# Altium integrated library Avago LED Display 7-Segment, 1-Digit.IntLib: 223 symbols (part 2 of 5)
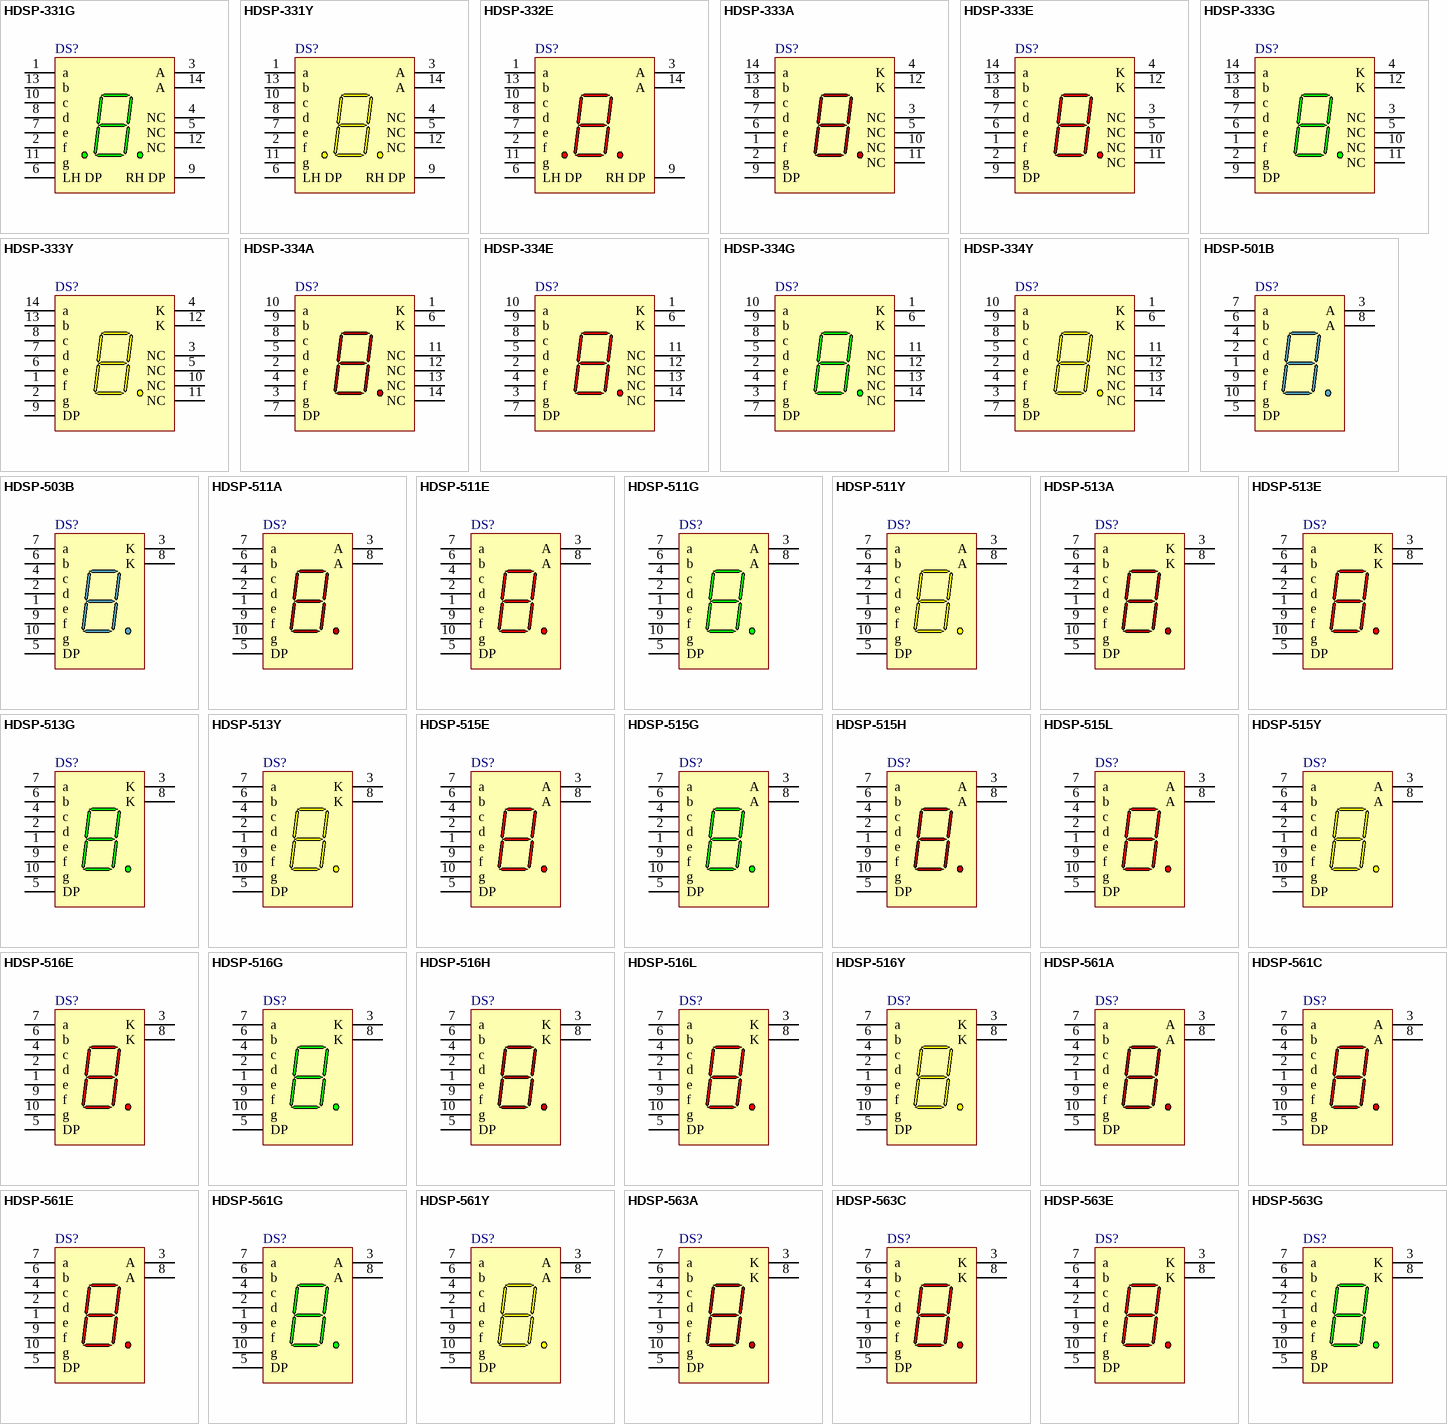
[diagram p6: symbols HDSP-331G to HDSP-563G]

## HDSP-334Y
designator DS?
7.62 mm General Purpose Yellow 7-Segment Display: CC, RH DP; Published: 26-May-2004; LatestRevisionDate: 11-Oct-2004; LatestRevisionNote: Display outline superimposed on PCB Footprint.; DatasheetVersion: 22-Apr-2003; PackageVersion: 22-Apr-2003; PackageReference: A-14(R); Publisher: Altium Limited; PackageDescription: LED, 7-Segment Display, 7.62 mm, RHD; 14 Leads; Row Space 7.62 mm; Pitch 2.54 mm; ComponentLink1Description: Manufacturer Link; ComponentLink1URL: http://www.avagotech.com/; ComponentLink2Description: Datasheet; ComponentLink2URL: http://cp.literature.agilent.com/litweb/pdf/5988-9421EN.pdf
footprint A-14(R) (LED, 7-Segment Display, 7.62 mm, RHD; 14 Leads; Row Space 7.62 mm; Pitch 2.54 mm)
simulation model HDSP_334Y (SUBCKT)
pins: 1 K "Common Cathode", 2 e "Anode", 3 g "Anode", 4 f "Anode", 5 d "Anode", 6 K "Common Cathode", 7 DP "Anode", 8 c "Anode", 9 b "Anode", 10 a "Anode", 11 NC "No Connect", 12 NC "No Connect", 13 NC "No Connect", 14 NC "No Connect"

## HDSP-501B
designator DS?
14.2 mm General Purpose Blue 7-Segment Display: CA, RH DP, Gray Surface; Published: 26-May-2004; LatestRevisionDate: 11-Oct-2004; LatestRevisionNote: Display outline superimposed on PCB Footprint.; DatasheetVersion: 24-Sep-2002; PackageVersion: 24-Sep-2002; PackageReference: H; Publisher: Altium Limited; PackageDescription: LED, 7-Segment Display, 14.2 mm, RHD; 10 Leads; Row Space 15.24 mm; Pitch 2.54 mm; ComponentLink1Description: Manufacturer Link; ComponentLink1URL: http://www.avagotech.com/; ComponentLink2Description: Datasheet; ComponentLink2URL: http://cp.literature.agilent.com/litweb/pdf/5988-8000EN.pdf
footprint H (LED, 7-Segment Display, 14.2 mm, RHD; 10 Leads; Row Space 15.24 mm; Pitch 2.54 mm)
simulation model HDSP_501B (SUBCKT)
pins: 1 e "Cathode", 2 d "Cathode", 3 A "Common Anode", 4 c "Cathode", 5 DP "Cathode", 6 b "Cathode", 7 a "Cathode", 8 A "Common Anode", 9 f "Cathode", 10 g "Cathode"

## HDSP-503B
designator DS?
14.2 mm General Purpose Blue 7-Segment Display: CC, RH DP, Gray Surface; Published: 26-May-2004; LatestRevisionDate: 11-Oct-2004; LatestRevisionNote: Display outline superimposed on PCB Footprint.; DatasheetVersion: 24-Sep-2002; PackageVersion: 24-Sep-2002; PackageReference: H; Publisher: Altium Limited; PackageDescription: LED, 7-Segment Display, 14.2 mm, RHD; 10 Leads; Row Space 15.24 mm; Pitch 2.54 mm; ComponentLink1Description: Manufacturer Link; ComponentLink1URL: http://www.avagotech.com/; ComponentLink2Description: Datasheet; ComponentLink2URL: http://cp.literature.agilent.com/litweb/pdf/5988-8000EN.pdf
footprint H (LED, 7-Segment Display, 14.2 mm, RHD; 10 Leads; Row Space 15.24 mm; Pitch 2.54 mm)
simulation model HDSP_503B (SUBCKT)
pins: 1 e "Anode", 2 d "Anode", 3 K "Common Cathode", 4 c "Anode", 5 DP "Anode", 6 b "Anode", 7 a "Anode", 8 K "Common Cathode", 9 f "Anode", 10 g "Anode"

## HDSP-511A
designator DS?
14.22 mm General Purpose AlGaAs Red 7-Segment Display: CA, RH DP; Published: 26-May-2004; LatestRevisionDate: 11-Oct-2004; LatestRevisionNote: Display outline superimposed on PCB Footprint.; DatasheetVersion: 25-Jul-2001; PackageVersion: 25-Jul-2001; PackageReference: HDSP-51; Publisher: Altium Limited; PackageDescription: LED, 7-Segment Display, 14.27 mm, RHD; 10 Leads; Row Space 15.24 mm; Pitch 2.54 mm; ComponentLink1Description: Manufacturer Link; ComponentLink1URL: http://www.avagotech.com/; ComponentLink2Description: Datasheet; ComponentLink2URL: http://cp.literature.agilent.com/litweb/pdf/5988-2968EN.pdf
footprint HDSP-51 (LED, 7-Segment Display, 14.27 mm, RHD; 10 Leads; Row Space 15.24 mm; Pitch 2.54 mm)
simulation model HDSP_511A (SUBCKT)
pins: 1 e "Cathode", 2 d "Cathode", 3 A "Common Anode", 4 c "Cathode", 5 DP "Cathode", 6 b "Cathode", 7 a "Cathode", 8 A "Common Anode", 9 f "Cathode", 10 g "Cathode"

## HDSP-511E
designator DS?
14.22 mm General Purpose HER 7-Segment Display: CA, RH DP; Published: 26-May-2004; LatestRevisionDate: 11-Oct-2004; LatestRevisionNote: Display outline superimposed on PCB Footprint.; DatasheetVersion: 25-Jul-2001; PackageVersion: 25-Jul-2001; PackageReference: HDSP-51; Publisher: Altium Limited; PackageDescription: LED, 7-Segment Display, 14.27 mm, RHD; 10 Leads; Row Space 15.24 mm; Pitch 2.54 mm; ComponentLink1Description: Manufacturer Link; ComponentLink1URL: http://www.avagotech.com/; ComponentLink2Description: Datasheet; ComponentLink2URL: http://cp.literature.agilent.com/litweb/pdf/5988-2968EN.pdf
footprint HDSP-51 (LED, 7-Segment Display, 14.27 mm, RHD; 10 Leads; Row Space 15.24 mm; Pitch 2.54 mm)
simulation model HDSP_511E (SUBCKT)
pins: 1 e "Cathode", 2 d "Cathode", 3 A "Common Anode", 4 c "Cathode", 5 DP "Cathode", 6 b "Cathode", 7 a "Cathode", 8 A "Common Anode", 9 f "Cathode", 10 g "Cathode"

## HDSP-511G
designator DS?
14.22 mm General Purpose Green 7-Segment Display: CA, RH DP; Published: 26-May-2004; LatestRevisionDate: 11-Oct-2004; LatestRevisionNote: Display outline superimposed on PCB Footprint.; DatasheetVersion: 25-Jul-2001; PackageVersion: 25-Jul-2001; PackageReference: HDSP-51; Publisher: Altium Limited; PackageDescription: LED, 7-Segment Display, 14.27 mm, RHD; 10 Leads; Row Space 15.24 mm; Pitch 2.54 mm; ComponentLink1Description: Manufacturer Link; ComponentLink1URL: http://www.avagotech.com/; ComponentLink2Description: Datasheet; ComponentLink2URL: http://cp.literature.agilent.com/litweb/pdf/5988-2968EN.pdf
footprint HDSP-51 (LED, 7-Segment Display, 14.27 mm, RHD; 10 Leads; Row Space 15.24 mm; Pitch 2.54 mm)
simulation model HDSP_511G (SUBCKT)
pins: 1 e "Cathode", 2 d "Cathode", 3 A "Common Anode", 4 c "Cathode", 5 DP "Cathode", 6 b "Cathode", 7 a "Cathode", 8 A "Common Anode", 9 f "Cathode", 10 g "Cathode"

## HDSP-511Y
designator DS?
14.22 mm General Purpose Yellow 7-Segment Display: CA, RH DP; Published: 26-May-2004; LatestRevisionDate: 11-Oct-2004; LatestRevisionNote: Display outline superimposed on PCB Footprint.; DatasheetVersion: 25-Jul-2001; PackageVersion: 25-Jul-2001; PackageReference: HDSP-51; Publisher: Altium Limited; PackageDescription: LED, 7-Segment Display, 14.27 mm, RHD; 10 Leads; Row Space 15.24 mm; Pitch 2.54 mm; ComponentLink1Description: Manufacturer Link; ComponentLink1URL: http://www.avagotech.com/; ComponentLink2Description: Datasheet; ComponentLink2URL: http://cp.literature.agilent.com/litweb/pdf/5988-2968EN.pdf
footprint HDSP-51 (LED, 7-Segment Display, 14.27 mm, RHD; 10 Leads; Row Space 15.24 mm; Pitch 2.54 mm)
simulation model HDSP_511Y (SUBCKT)
pins: 1 e "Cathode", 2 d "Cathode", 3 A "Common Anode", 4 c "Cathode", 5 DP "Cathode", 6 b "Cathode", 7 a "Cathode", 8 A "Common Anode", 9 f "Cathode", 10 g "Cathode"

## HDSP-513A
designator DS?
14.22 mm General Purpose AlGaAs Red 7-Segment Display: CC, RH DP; Published: 26-May-2004; LatestRevisionDate: 11-Oct-2004; LatestRevisionNote: Display outline superimposed on PCB Footprint.; DatasheetVersion: 25-Jul-2001; PackageVersion: 25-Jul-2001; PackageReference: HDSP-51; Publisher: Altium Limited; PackageDescription: LED, 7-Segment Display, 14.27 mm, RHD; 10 Leads; Row Space 15.24 mm; Pitch 2.54 mm; ComponentLink1Description: Manufacturer Link; ComponentLink1URL: http://www.avagotech.com/; ComponentLink2Description: Datasheet; ComponentLink2URL: http://cp.literature.agilent.com/litweb/pdf/5988-2968EN.pdf
footprint HDSP-51 (LED, 7-Segment Display, 14.27 mm, RHD; 10 Leads; Row Space 15.24 mm; Pitch 2.54 mm)
simulation model HDSP_513A (SUBCKT)
pins: 1 e "Anode", 2 d "Anode", 3 K "Common Cathode", 4 c "Anode", 5 DP "Anode", 6 b "Anode", 7 a "Anode", 8 K "Common Cathode", 9 f "Anode", 10 g "Anode"

## HDSP-513E
designator DS?
14.22 mm General Purpose HER 7-Segment Display: CC, RH DP; Published: 26-May-2004; LatestRevisionDate: 11-Oct-2004; LatestRevisionNote: Display outline superimposed on PCB Footprint.; DatasheetVersion: 25-Jul-2001; PackageVersion: 25-Jul-2001; PackageReference: HDSP-51; Publisher: Altium Limited; PackageDescription: LED, 7-Segment Display, 14.27 mm, RHD; 10 Leads; Row Space 15.24 mm; Pitch 2.54 mm; ComponentLink1Description: Manufacturer Link; ComponentLink1URL: http://www.avagotech.com/; ComponentLink2Description: Datasheet; ComponentLink2URL: http://cp.literature.agilent.com/litweb/pdf/5988-2968EN.pdf
footprint HDSP-51 (LED, 7-Segment Display, 14.27 mm, RHD; 10 Leads; Row Space 15.24 mm; Pitch 2.54 mm)
simulation model HDSP_513E (SUBCKT)
pins: 1 e "Anode", 2 d "Anode", 3 K "Common Cathode", 4 c "Anode", 5 DP "Anode", 6 b "Anode", 7 a "Anode", 8 K "Common Cathode", 9 f "Anode", 10 g "Anode"

## HDSP-513G
designator DS?
14.22 mm General Purpose Green 7-Segment Display: CC, RH DP; Published: 26-May-2004; LatestRevisionDate: 11-Oct-2004; LatestRevisionNote: Display outline superimposed on PCB Footprint.; DatasheetVersion: 25-Jul-2001; PackageVersion: 25-Jul-2001; PackageReference: HDSP-51; Publisher: Altium Limited; PackageDescription: LED, 7-Segment Display, 14.27 mm, RHD; 10 Leads; Row Space 15.24 mm; Pitch 2.54 mm; ComponentLink1Description: Manufacturer Link; ComponentLink1URL: http://www.avagotech.com/; ComponentLink2Description: Datasheet; ComponentLink2URL: http://cp.literature.agilent.com/litweb/pdf/5988-2968EN.pdf
footprint HDSP-51 (LED, 7-Segment Display, 14.27 mm, RHD; 10 Leads; Row Space 15.24 mm; Pitch 2.54 mm)
simulation model HDSP_513G (SUBCKT)
pins: 1 e "Anode", 2 d "Anode", 3 K "Common Cathode", 4 c "Anode", 5 DP "Anode", 6 b "Anode", 7 a "Anode", 8 K "Common Cathode", 9 f "Anode", 10 g "Anode"

## HDSP-513Y
designator DS?
14.22 mm General Purpose Yellow 7-Segment Display: CC, RH DP; Published: 26-May-2004; LatestRevisionDate: 11-Oct-2004; LatestRevisionNote: Display outline superimposed on PCB Footprint.; DatasheetVersion: 25-Jul-2001; PackageVersion: 25-Jul-2001; PackageReference: HDSP-51; Publisher: Altium Limited; PackageDescription: LED, 7-Segment Display, 14.27 mm, RHD; 10 Leads; Row Space 15.24 mm; Pitch 2.54 mm; ComponentLink1Description: Manufacturer Link; ComponentLink1URL: http://www.avagotech.com/; ComponentLink2Description: Datasheet; ComponentLink2URL: http://cp.literature.agilent.com/litweb/pdf/5988-2968EN.pdf
footprint HDSP-51 (LED, 7-Segment Display, 14.27 mm, RHD; 10 Leads; Row Space 15.24 mm; Pitch 2.54 mm)
simulation model HDSP_513Y (SUBCKT)
pins: 1 e "Anode", 2 d "Anode", 3 K "Common Cathode", 4 c "Anode", 5 DP "Anode", 6 b "Anode", 7 a "Anode", 8 K "Common Cathode", 9 f "Anode", 10 g "Anode"

## HDSP-515E
designator DS?
13 mm Slim Font, Standard Current, HER 7-Segment Display: CA, RH DP; Published: 26-May-2004; LatestRevisionDate: 11-Oct-2004; LatestRevisionNote: Display outline superimposed on PCB Footprint.; DatasheetVersion: 20-Jul-2001; PackageVersion: 01-Oct-2001; PackageReference: Case-5; Publisher: Altium Limited; PackageDescription: LED, 7-Segment Display, 13 mm, RHD; 10 Leads; Row Space 15.24 mm; Pitch 2.54 mm; ComponentLink1Description: Manufacturer Link; ComponentLink1URL: http://www.avagotech.com/; ComponentLink2Description: Datasheet; ComponentLink2URL: http://cp.literature.agilent.com/litweb/pdf/5989-2640EN.pdf
footprint Case-5 (LED, 7-Segment Display, 13 mm, RHD; 10 Leads; Row Space 15.24 mm; Pitch 2.54 mm)
simulation model HDSP_515E (SUBCKT)
pins: 1 e "Cathode", 2 d "Cathode", 3 A "Common Anode", 4 c "Cathode", 5 DP "Cathode", 6 b "Cathode", 7 a "Cathode", 8 A "Common Anode", 9 f "Cathode", 10 g "Cathode"

## HDSP-515G
designator DS?
13 mm Slim Font, Standard Current, Green 7-Segment Display: CA, RH DP; Published: 26-May-2004; LatestRevisionDate: 11-Oct-2004; LatestRevisionNote: Display outline superimposed on PCB Footprint.; DatasheetVersion: 20-Jul-2001; PackageVersion: 01-Oct-2001; PackageReference: Case-5; Publisher: Altium Limited; PackageDescription: LED, 7-Segment Display, 13 mm, RHD; 10 Leads; Row Space 15.24 mm; Pitch 2.54 mm; ComponentLink1Description: Manufacturer Link; ComponentLink1URL: http://www.avagotech.com/; ComponentLink2Description: Datasheet; ComponentLink2URL: http://cp.literature.agilent.com/litweb/pdf/5989-2640EN.pdf
footprint Case-5 (LED, 7-Segment Display, 13 mm, RHD; 10 Leads; Row Space 15.24 mm; Pitch 2.54 mm)
simulation model HDSP_515G (SUBCKT)
pins: 1 e "Cathode", 2 d "Cathode", 3 A "Common Anode", 4 c "Cathode", 5 DP "Cathode", 6 b "Cathode", 7 a "Cathode", 8 A "Common Anode", 9 f "Cathode", 10 g "Cathode"

## HDSP-515H
designator DS?
13 mm Slim Font, Low Current, AlGaAs Red 7-Segment Display: CA, RH DP; Published: 26-May-2004; LatestRevisionDate: 11-Oct-2004; LatestRevisionNote: Display outline superimposed on PCB Footprint.; DatasheetVersion: 20-Jul-2001; PackageVersion: 01-Oct-2001; PackageReference: Case-5; Publisher: Altium Limited; PackageDescription: LED, 7-Segment Display, 13 mm, RHD; 10 Leads; Row Space 15.24 mm; Pitch 2.54 mm; ComponentLink1Description: Manufacturer Link; ComponentLink1URL: http://www.avagotech.com/; ComponentLink2Description: Datasheet; ComponentLink2URL: http://cp.literature.agilent.com/litweb/pdf/5989-2640EN.pdf
footprint Case-5 (LED, 7-Segment Display, 13 mm, RHD; 10 Leads; Row Space 15.24 mm; Pitch 2.54 mm)
simulation model HDSP_515H (SUBCKT)
pins: 1 e "Cathode", 2 d "Cathode", 3 A "Common Anode", 4 c "Cathode", 5 DP "Cathode", 6 b "Cathode", 7 a "Cathode", 8 A "Common Anode", 9 f "Cathode", 10 g "Cathode"

## HDSP-515L
designator DS?
13 mm Slim Font, Low Current, HER 7-Segment Display: CA, RH DP; Published: 26-May-2004; LatestRevisionDate: 11-Oct-2004; LatestRevisionNote: Display outline superimposed on PCB Footprint.; DatasheetVersion: 20-Jul-2001; PackageVersion: 01-Oct-2001; PackageReference: Case-5; Publisher: Altium Limited; PackageDescription: LED, 7-Segment Display, 13 mm, RHD; 10 Leads; Row Space 15.24 mm; Pitch 2.54 mm; ComponentLink1Description: Manufacturer Link; ComponentLink1URL: http://www.avagotech.com/; ComponentLink2Description: Datasheet; ComponentLink2URL: http://cp.literature.agilent.com/litweb/pdf/5989-2640EN.pdf
footprint Case-5 (LED, 7-Segment Display, 13 mm, RHD; 10 Leads; Row Space 15.24 mm; Pitch 2.54 mm)
simulation model HDSP_515L (SUBCKT)
pins: 1 e "Cathode", 2 d "Cathode", 3 A "Common Anode", 4 c "Cathode", 5 DP "Cathode", 6 b "Cathode", 7 a "Cathode", 8 A "Common Anode", 9 f "Cathode", 10 g "Cathode"

## HDSP-515Y
designator DS?
13 mm Slim Font, Standard Current, Yellow 7-Segment Display: CA, RH DP; Published: 26-May-2004; LatestRevisionDate: 11-Oct-2004; LatestRevisionNote: Display outline superimposed on PCB Footprint.; DatasheetVersion: 20-Jul-2001; PackageVersion: 01-Oct-2001; PackageReference: Case-5; Publisher: Altium Limited; PackageDescription: LED, 7-Segment Display, 13 mm, RHD; 10 Leads; Row Space 15.24 mm; Pitch 2.54 mm; ComponentLink1Description: Manufacturer Link; ComponentLink1URL: http://www.avagotech.com/; ComponentLink2Description: Datasheet; ComponentLink2URL: http://cp.literature.agilent.com/litweb/pdf/5989-2640EN.pdf
footprint Case-5 (LED, 7-Segment Display, 13 mm, RHD; 10 Leads; Row Space 15.24 mm; Pitch 2.54 mm)
simulation model HDSP_515Y (SUBCKT)
pins: 1 e "Cathode", 2 d "Cathode", 3 A "Common Anode", 4 c "Cathode", 5 DP "Cathode", 6 b "Cathode", 7 a "Cathode", 8 A "Common Anode", 9 f "Cathode", 10 g "Cathode"

## HDSP-516E
designator DS?
13 mm Slim Font, Standard Current, HER 7-Segment Display: CC, RH DP; Published: 26-May-2004; LatestRevisionDate: 11-Oct-2004; LatestRevisionNote: Display outline superimposed on PCB Footprint.; DatasheetVersion: 20-Jul-2001; PackageVersion: 01-Oct-2001; PackageReference: Case-5; Publisher: Altium Limited; PackageDescription: LED, 7-Segment Display, 13 mm, RHD; 10 Leads; Row Space 15.24 mm; Pitch 2.54 mm; ComponentLink1Description: Manufacturer Link; ComponentLink1URL: http://www.avagotech.com/; ComponentLink2Description: Datasheet; ComponentLink2URL: http://cp.literature.agilent.com/litweb/pdf/5989-2640EN.pdf
footprint Case-5 (LED, 7-Segment Display, 13 mm, RHD; 10 Leads; Row Space 15.24 mm; Pitch 2.54 mm)
simulation model HDSP_516E (SUBCKT)
pins: 1 e "Anode", 2 d "Anode", 3 K "Common Cathode", 4 c "Anode", 5 DP "Anode", 6 b "Anode", 7 a "Anode", 8 K "Common Cathode", 9 f "Anode", 10 g "Anode"

## HDSP-516G
designator DS?
13 mm Slim Font, Standard Current, Green 7-Segment Display: CC, RH DP; Published: 26-May-2004; LatestRevisionDate: 11-Oct-2004; LatestRevisionNote: Display outline superimposed on PCB Footprint.; DatasheetVersion: 20-Jul-2001; PackageVersion: 01-Oct-2001; PackageReference: Case-5; Publisher: Altium Limited; PackageDescription: LED, 7-Segment Display, 13 mm, RHD; 10 Leads; Row Space 15.24 mm; Pitch 2.54 mm; ComponentLink1Description: Manufacturer Link; ComponentLink1URL: http://www.avagotech.com/; ComponentLink2Description: Datasheet; ComponentLink2URL: http://cp.literature.agilent.com/litweb/pdf/5989-2640EN.pdf
footprint Case-5 (LED, 7-Segment Display, 13 mm, RHD; 10 Leads; Row Space 15.24 mm; Pitch 2.54 mm)
simulation model HDSP_516G (SUBCKT)
pins: 1 e "Anode", 2 d "Anode", 3 K "Common Cathode", 4 c "Anode", 5 DP "Anode", 6 b "Anode", 7 a "Anode", 8 K "Common Cathode", 9 f "Anode", 10 g "Anode"

## HDSP-516H
designator DS?
13 mm Slim Font, Low Current, AlGaAs Red 7-Segment Display: CC, RH DP; Published: 26-May-2004; LatestRevisionDate: 11-Oct-2004; LatestRevisionNote: Display outline superimposed on PCB Footprint.; DatasheetVersion: 20-Jul-2001; PackageVersion: 01-Oct-2001; PackageReference: Case-5; Publisher: Altium Limited; PackageDescription: LED, 7-Segment Display, 13 mm, RHD; 10 Leads; Row Space 15.24 mm; Pitch 2.54 mm; ComponentLink1Description: Manufacturer Link; ComponentLink1URL: http://www.avagotech.com/; ComponentLink2Description: Datasheet; ComponentLink2URL: http://cp.literature.agilent.com/litweb/pdf/5989-2640EN.pdf
footprint Case-5 (LED, 7-Segment Display, 13 mm, RHD; 10 Leads; Row Space 15.24 mm; Pitch 2.54 mm)
simulation model HDSP_516H (SUBCKT)
pins: 1 e "Anode", 2 d "Anode", 3 K "Common Cathode", 4 c "Anode", 5 DP "Anode", 6 b "Anode", 7 a "Anode", 8 K "Common Cathode", 9 f "Anode", 10 g "Anode"

## HDSP-516L
designator DS?
13 mm Slim Font, Low Current, HER 7-Segment Display: CC, RH DP; Published: 26-May-2004; LatestRevisionDate: 11-Oct-2004; LatestRevisionNote: Display outline superimposed on PCB Footprint.; DatasheetVersion: 20-Jul-2001; PackageVersion: 01-Oct-2001; PackageReference: Case-5; Publisher: Altium Limited; PackageDescription: LED, 7-Segment Display, 13 mm, RHD; 10 Leads; Row Space 15.24 mm; Pitch 2.54 mm; ComponentLink1Description: Manufacturer Link; ComponentLink1URL: http://www.avagotech.com/; ComponentLink2Description: Datasheet; ComponentLink2URL: http://cp.literature.agilent.com/litweb/pdf/5989-2640EN.pdf
footprint Case-5 (LED, 7-Segment Display, 13 mm, RHD; 10 Leads; Row Space 15.24 mm; Pitch 2.54 mm)
simulation model HDSP_516L (SUBCKT)
pins: 1 e "Anode", 2 d "Anode", 3 K "Common Cathode", 4 c "Anode", 5 DP "Anode", 6 b "Anode", 7 a "Anode", 8 K "Common Cathode", 9 f "Anode", 10 g "Anode"

## HDSP-516Y
designator DS?
13 mm Slim Font, Standard Current, Yellow 7-Segment Display: CC, RH DP; Published: 26-May-2004; LatestRevisionDate: 11-Oct-2004; LatestRevisionNote: Display outline superimposed on PCB Footprint.; DatasheetVersion: 20-Jul-2001; PackageVersion: 01-Oct-2001; PackageReference: Case-5; Publisher: Altium Limited; PackageDescription: LED, 7-Segment Display, 13 mm, RHD; 10 Leads; Row Space 15.24 mm; Pitch 2.54 mm; ComponentLink1Description: Manufacturer Link; ComponentLink1URL: http://www.avagotech.com/; ComponentLink2Description: Datasheet; ComponentLink2URL: http://cp.literature.agilent.com/litweb/pdf/5989-2640EN.pdf
footprint Case-5 (LED, 7-Segment Display, 13 mm, RHD; 10 Leads; Row Space 15.24 mm; Pitch 2.54 mm)
simulation model HDSP_516Y (SUBCKT)
pins: 1 e "Anode", 2 d "Anode", 3 K "Common Cathode", 4 c "Anode", 5 DP "Anode", 6 b "Anode", 7 a "Anode", 8 K "Common Cathode", 9 f "Anode", 10 g "Anode"

## HDSP-561A
designator DS?
13 mm Slim Font, AlGaAs 7-Segment Display: CA, RH DP; Published: 26-May-2004; LatestRevisionDate: 11-Oct-2004; LatestRevisionNote: Display outline superimposed on PCB Footprint.; DatasheetVersion: 1-Oct-2001; PackageVersion: 01-Oct-2001; PackageReference: Case-5; Publisher: Altium Limited; PackageDescription: LED, 7-Segment Display, 13 mm, RHD; 10 Leads; Row Space 15.24 mm; Pitch 2.54 mm; ComponentLink1Description: Manufacturer Link; ComponentLink1URL: http://www.avagotech.com/; ComponentLink2Description: Datasheet; ComponentLink2URL: http://cp.literature.agilent.com/litweb/pdf/5988-4352EN.pdf
footprint Case-5 (LED, 7-Segment Display, 13 mm, RHD; 10 Leads; Row Space 15.24 mm; Pitch 2.54 mm)
simulation model HDSP_561A (SUBCKT)
pins: 1 e "Cathode", 2 d "Cathode", 3 A "Common Anode", 4 c "Cathode", 5 DP "Cathode", 6 b "Cathode", 7 a "Cathode", 8 A "Common Anode", 9 f "Cathode", 10 g "Cathode"

## HDSP-561C
designator DS?
13 mm Slim Font, As AlInGaP Red 7-Segment Display: CA, RH DP; Published: 26-May-2004; LatestRevisionDate: 11-Oct-2004; LatestRevisionNote: Display outline superimposed on PCB Footprint.; DatasheetVersion: 20-Nov-2001; PackageVersion: 01-Oct-2001; PackageReference: Case-5; Publisher: Altium Limited; PackageDescription: LED, 7-Segment Display, 13 mm, RHD; 10 Leads; Row Space 15.24 mm; Pitch 2.54 mm; ComponentLink1Description: Manufacturer Link; ComponentLink1URL: http://www.avagotech.com/; ComponentLink2Description: Datasheet; ComponentLink2URL: http://cp.literature.agilent.com/litweb/pdf/5988-4823EN.pdf
footprint Case-5 (LED, 7-Segment Display, 13 mm, RHD; 10 Leads; Row Space 15.24 mm; Pitch 2.54 mm)
simulation model HDSP_561C (SUBCKT)
pins: 1 e "Cathode", 2 d "Cathode", 3 A "Common Anode", 4 c "Cathode", 5 DP "Cathode", 6 b "Cathode", 7 a "Cathode", 8 A "Common Anode", 9 f "Cathode", 10 g "Cathode"

## HDSP-561E
designator DS?
13 mm Slim Font, HER 7-Segment Display: CA, RH DP; Published: 26-May-2004; LatestRevisionDate: 11-Oct-2004; LatestRevisionNote: Display outline superimposed on PCB Footprint.; DatasheetVersion: 1-Oct-2001; PackageVersion: 01-Oct-2001; PackageReference: Case-5; Publisher: Altium Limited; PackageDescription: LED, 7-Segment Display, 13 mm, RHD; 10 Leads; Row Space 15.24 mm; Pitch 2.54 mm; ComponentLink1Description: Manufacturer Link; ComponentLink1URL: http://www.avagotech.com/; ComponentLink2Description: Datasheet; ComponentLink2URL: http://cp.literature.agilent.com/litweb/pdf/5988-4352EN.pdf
footprint Case-5 (LED, 7-Segment Display, 13 mm, RHD; 10 Leads; Row Space 15.24 mm; Pitch 2.54 mm)
simulation model HDSP_561E (SUBCKT)
pins: 1 e "Cathode", 2 d "Cathode", 3 A "Common Anode", 4 c "Cathode", 5 DP "Cathode", 6 b "Cathode", 7 a "Cathode", 8 A "Common Anode", 9 f "Cathode", 10 g "Cathode"

## HDSP-561G
designator DS?
13 mm Slim Font, Green 7-Segment Display: CA, RH DP; Published: 26-May-2004; LatestRevisionDate: 11-Oct-2004; LatestRevisionNote: Display outline superimposed on PCB Footprint.; DatasheetVersion: 1-Oct-2001; PackageVersion: 01-Oct-2001; PackageReference: Case-5; Publisher: Altium Limited; PackageDescription: LED, 7-Segment Display, 13 mm, RHD; 10 Leads; Row Space 15.24 mm; Pitch 2.54 mm; ComponentLink1Description: Manufacturer Link; ComponentLink1URL: http://www.avagotech.com/; ComponentLink2Description: Datasheet; ComponentLink2URL: http://cp.literature.agilent.com/litweb/pdf/5988-4352EN.pdf
footprint Case-5 (LED, 7-Segment Display, 13 mm, RHD; 10 Leads; Row Space 15.24 mm; Pitch 2.54 mm)
simulation model HDSP_561G (SUBCKT)
pins: 1 e "Cathode", 2 d "Cathode", 3 A "Common Anode", 4 c "Cathode", 5 DP "Cathode", 6 b "Cathode", 7 a "Cathode", 8 A "Common Anode", 9 f "Cathode", 10 g "Cathode"

## HDSP-561Y
designator DS?
13 mm Slim Font, Yellow 7-Segment Display: CA, RH DP; Published: 26-May-2004; LatestRevisionDate: 11-Oct-2004; LatestRevisionNote: Display outline superimposed on PCB Footprint.; DatasheetVersion: 1-Oct-2001; PackageVersion: 01-Oct-2001; PackageReference: Case-5; Publisher: Altium Limited; PackageDescription: LED, 7-Segment Display, 13 mm, RHD; 10 Leads; Row Space 15.24 mm; Pitch 2.54 mm; ComponentLink1Description: Manufacturer Link; ComponentLink1URL: http://www.avagotech.com/; ComponentLink2Description: Datasheet; ComponentLink2URL: http://cp.literature.agilent.com/litweb/pdf/5988-4352EN.pdf
footprint Case-5 (LED, 7-Segment Display, 13 mm, RHD; 10 Leads; Row Space 15.24 mm; Pitch 2.54 mm)
simulation model HDSP_561Y (SUBCKT)
pins: 1 e "Cathode", 2 d "Cathode", 3 A "Common Anode", 4 c "Cathode", 5 DP "Cathode", 6 b "Cathode", 7 a "Cathode", 8 A "Common Anode", 9 f "Cathode", 10 g "Cathode"

## HDSP-563A
designator DS?
13 mm Slim Font, AlGaAs 7-Segment Display: CC, RH DP; Published: 26-May-2004; LatestRevisionDate: 11-Oct-2004; LatestRevisionNote: Display outline superimposed on PCB Footprint.; DatasheetVersion: 1-Oct-2001; PackageVersion: 01-Oct-2001; PackageReference: Case-5; Publisher: Altium Limited; PackageDescription: LED, 7-Segment Display, 13 mm, RHD; 10 Leads; Row Space 15.24 mm; Pitch 2.54 mm; ComponentLink1Description: Manufacturer Link; ComponentLink1URL: http://www.avagotech.com/; ComponentLink2Description: Datasheet; ComponentLink2URL: http://cp.literature.agilent.com/litweb/pdf/5988-4352EN.pdf
footprint Case-5 (LED, 7-Segment Display, 13 mm, RHD; 10 Leads; Row Space 15.24 mm; Pitch 2.54 mm)
simulation model HDSP_563A (SUBCKT)
pins: 1 e "Anode", 2 d "Anode", 3 K "Common Cathode", 4 c "Anode", 5 DP "Anode", 6 b "Anode", 7 a "Anode", 8 K "Common Cathode", 9 f "Anode", 10 g "Anode"

## HDSP-563C
designator DS?
13 mm Slim Font, As AlInGaP Red 7-Segment Display: CC, RH DP; Published: 26-May-2004; LatestRevisionDate: 11-Oct-2004; LatestRevisionNote: Display outline superimposed on PCB Footprint.; DatasheetVersion: 20-Nov-2001; PackageVersion: 01-Oct-2001; PackageReference: Case-5; Publisher: Altium Limited; PackageDescription: LED, 7-Segment Display, 13 mm, RHD; 10 Leads; Row Space 15.24 mm; Pitch 2.54 mm; ComponentLink1Description: Manufacturer Link; ComponentLink1URL: http://www.avagotech.com/; ComponentLink2Description: Datasheet; ComponentLink2URL: http://cp.literature.agilent.com/litweb/pdf/5988-4823EN.pdf
footprint Case-5 (LED, 7-Segment Display, 13 mm, RHD; 10 Leads; Row Space 15.24 mm; Pitch 2.54 mm)
simulation model HDSP_563C (SUBCKT)
pins: 1 e "Anode", 2 d "Anode", 3 K "Common Cathode", 4 c "Anode", 5 DP "Anode", 6 b "Anode", 7 a "Anode", 8 K "Common Cathode", 9 f "Anode", 10 g "Anode"

## HDSP-563E
designator DS?
13 mm Slim Font, HER 7-Segment Display: CC, RH DP; Published: 26-May-2004; LatestRevisionDate: 11-Oct-2004; LatestRevisionNote: Display outline superimposed on PCB Footprint.; DatasheetVersion: 1-Oct-2001; PackageVersion: 01-Oct-2001; PackageReference: Case-5; Publisher: Altium Limited; PackageDescription: LED, 7-Segment Display, 13 mm, RHD; 10 Leads; Row Space 15.24 mm; Pitch 2.54 mm; ComponentLink1Description: Manufacturer Link; ComponentLink1URL: http://www.avagotech.com/; ComponentLink2Description: Datasheet; ComponentLink2URL: http://cp.literature.agilent.com/litweb/pdf/5988-4352EN.pdf
footprint Case-5 (LED, 7-Segment Display, 13 mm, RHD; 10 Leads; Row Space 15.24 mm; Pitch 2.54 mm)
simulation model HDSP_563E (SUBCKT)
pins: 1 e "Anode", 2 d "Anode", 3 K "Common Cathode", 4 c "Anode", 5 DP "Anode", 6 b "Anode", 7 a "Anode", 8 K "Common Cathode", 9 f "Anode", 10 g "Anode"

## HDSP-563G
designator DS?
13 mm Slim Font, Green 7-Segment Display: CC, RH DP; Published: 26-May-2004; LatestRevisionDate: 11-Oct-2004; LatestRevisionNote: Display outline superimposed on PCB Footprint.; DatasheetVersion: 1-Oct-2001; PackageVersion: 01-Oct-2001; PackageReference: Case-5; Publisher: Altium Limited; PackageDescription: LED, 7-Segment Display, 13 mm, RHD; 10 Leads; Row Space 15.24 mm; Pitch 2.54 mm; ComponentLink1Description: Manufacturer Link; ComponentLink1URL: http://www.avagotech.com/; ComponentLink2Description: Datasheet; ComponentLink2URL: http://cp.literature.agilent.com/litweb/pdf/5988-4352EN.pdf
footprint Case-5 (LED, 7-Segment Display, 13 mm, RHD; 10 Leads; Row Space 15.24 mm; Pitch 2.54 mm)
simulation model HDSP_563G (SUBCKT)
pins: 1 e "Anode", 2 d "Anode", 3 K "Common Cathode", 4 c "Anode", 5 DP "Anode", 6 b "Anode", 7 a "Anode", 8 K "Common Cathode", 9 f "Anode", 10 g "Anode"

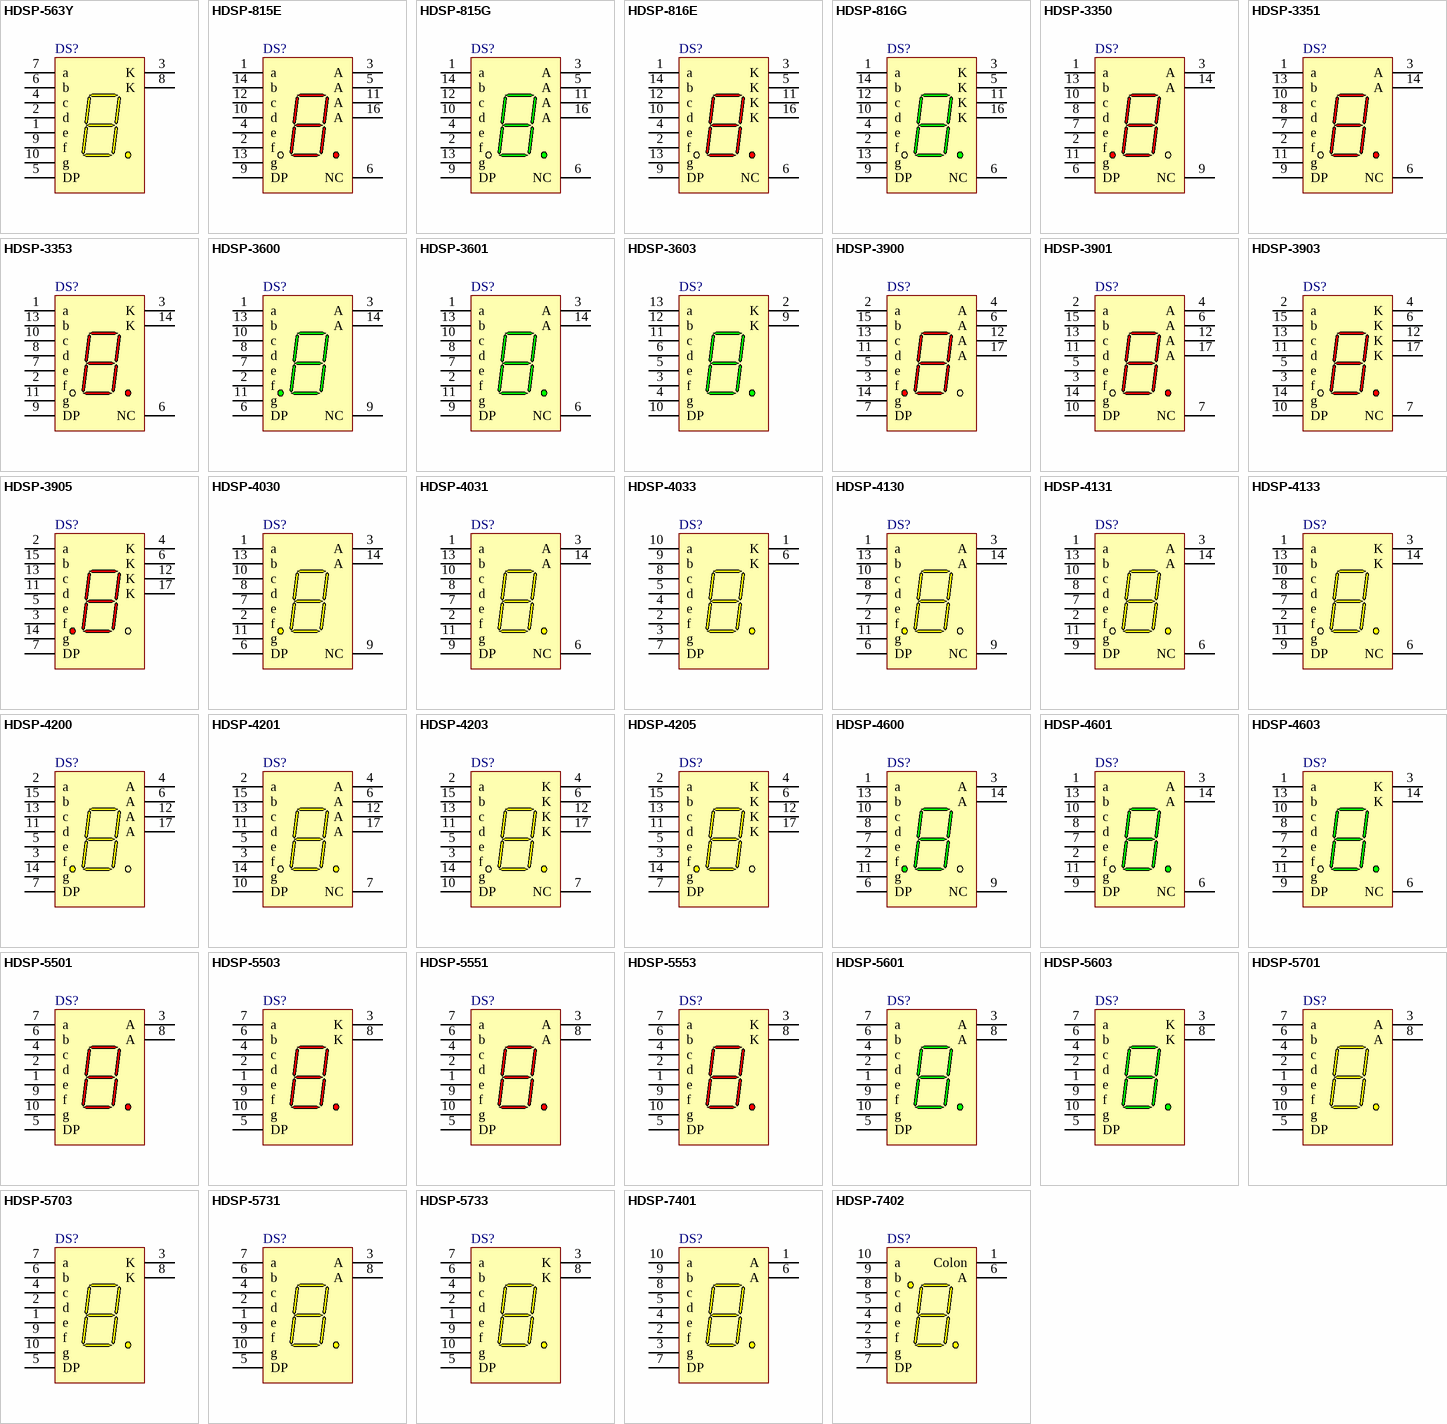
[diagram p2: symbols HDSP-563Y to HDSP-7402]

## HDSP-563Y
designator DS?
13 mm Slim Font, Yellow 7-Segment Display: CC, RH DP; Published: 26-May-2004; LatestRevisionDate: 11-Oct-2004; LatestRevisionNote: Display outline superimposed on PCB Footprint.; DatasheetVersion: 1-Oct-2001; PackageVersion: 01-Oct-2001; PackageReference: Case-5; Publisher: Altium Limited; PackageDescription: LED, 7-Segment Display, 13 mm, RHD; 10 Leads; Row Space 15.24 mm; Pitch 2.54 mm; ComponentLink1Description: Manufacturer Link; ComponentLink1URL: http://www.avagotech.com/; ComponentLink2Description: Datasheet; ComponentLink2URL: http://cp.literature.agilent.com/litweb/pdf/5988-4352EN.pdf
footprint Case-5 (LED, 7-Segment Display, 13 mm, RHD; 10 Leads; Row Space 15.24 mm; Pitch 2.54 mm)
simulation model HDSP_563Y (SUBCKT)
pins: 1 e "Anode", 2 d "Anode", 3 K "Common Cathode", 4 c "Anode", 5 DP "Anode", 6 b "Anode", 7 a "Anode", 8 K "Common Cathode", 9 f "Anode", 10 g "Anode"

## HDSP-815E
designator DS?
20.32 mm General Purpose, HER 7-Segment Display: CA, RH DP, Gray Surface; Note: No pins are present in positions 7, 8 and 15.; Published: 26-May-2004; LatestRevisionDate: 11-Oct-2004; LatestRevisionNote: Display outline superimposed on PCB Footprint.; DatasheetVersion: 24-Sep-2002; PackageVersion: 01-Oct-2002; PackageReference: N-13(16); Publisher: Altium Limited; PackageDescription: LED, 7-Segment Display, 20.32 mm, RHD; 16 Leads (3 Absent); Row Space 15.24 mm; Pitch 2.54 mm; ComponentLink1Description: Manufacturer Link; ComponentLink1URL: http://www.avagotech.com/; ComponentLink2Description: Datasheet; ComponentLink2URL: http://cp.literature.agilent.com/litweb/pdf/5988-7999EN.pdf
footprint N-13(16) (LED, 7-Segment Display, 20.32 mm, RHD; 16 Leads (3 Absent); Row Space 15.24 mm; Pitch 2.54 mm)
simulation model HDSP_815E (SUBCKT)
pins: 1 a "Cathode", 2 f "Cathode", 3 A "Common Anode", 4 e "Cathode", 5 A "Common Anode", 6 NC "No Connect", 9 DP "RHDP Cathode", 10 d "Cathode", 11 A "Common Anode", 12 c "Cathode", 13 g "Cathode", 14 b "Cathode", 16 A "Common Anode"

## HDSP-815G
designator DS?
20.32 mm General Purpose, Green 7-Segment Display: CA, RH DP, Gray Surface; Note: No pins are present in positions 7, 8 and 15.; Published: 26-May-2004; LatestRevisionDate: 11-Oct-2004; LatestRevisionNote: Display outline superimposed on PCB Footprint.; DatasheetVersion: 24-Sep-2002; PackageVersion: 01-Oct-2002; PackageReference: N-13(16); Publisher: Altium Limited; PackageDescription: LED, 7-Segment Display, 20.32 mm, RHD; 16 Leads (3 Absent); Row Space 15.24 mm; Pitch 2.54 mm; ComponentLink1Description: Manufacturer Link; ComponentLink1URL: http://www.avagotech.com/; ComponentLink2Description: Datasheet; ComponentLink2URL: http://cp.literature.agilent.com/litweb/pdf/5988-7999EN.pdf
footprint N-13(16) (LED, 7-Segment Display, 20.32 mm, RHD; 16 Leads (3 Absent); Row Space 15.24 mm; Pitch 2.54 mm)
simulation model HDSP_815G (SUBCKT)
pins: 1 a "Cathode", 2 f "Cathode", 3 A "Common Anode", 4 e "Cathode", 5 A "Common Anode", 6 NC "No Connect", 9 DP "RHDP Cathode", 10 d "Cathode", 11 A "Common Anode", 12 c "Cathode", 13 g "Cathode", 14 b "Cathode", 16 A "Common Anode"

## HDSP-816E
designator DS?
20.32 mm General Purpose, HER 7-Segment Display: CC, RH DP, Gray Surface; Note: No pins are present in positions 7, 8 and 15.; Published: 26-May-2004; LatestRevisionDate: 11-Oct-2004; LatestRevisionNote: Display outline superimposed on PCB Footprint.; DatasheetVersion: 24-Sep-2002; PackageVersion: 01-Oct-2002; PackageReference: N-13(16); Publisher: Altium Limited; PackageDescription: LED, 7-Segment Display, 20.32 mm, RHD; 16 Leads (3 Absent); Row Space 15.24 mm; Pitch 2.54 mm; ComponentLink1Description: Manufacturer Link; ComponentLink1URL: http://www.avagotech.com/; ComponentLink2Description: Datasheet; ComponentLink2URL: http://cp.literature.agilent.com/litweb/pdf/5988-7999EN.pdf
footprint N-13(16) (LED, 7-Segment Display, 20.32 mm, RHD; 16 Leads (3 Absent); Row Space 15.24 mm; Pitch 2.54 mm)
simulation model HDSP_816E (SUBCKT)
pins: 1 a "Anode", 2 f "Anode", 3 K "Common Cathode", 4 e "Anode", 5 K "Common Cathode", 6 NC "No Connect", 9 DP "RHDP Anode", 10 d "Anode", 11 K "Common Cathode", 12 c "Anode", 13 g "Anode", 14 b "Anode", 16 K "Common Cathode"

## HDSP-816G
designator DS?
20.32 mm General Purpose, Green 7-Segment Display: CC, RH DP, Gray Surface; Note: No pins are present in positions 7, 8 and 15.; Published: 26-May-2004; LatestRevisionDate: 11-Oct-2004; LatestRevisionNote: Display outline superimposed on PCB Footprint.; DatasheetVersion: 24-Sep-2002; PackageVersion: 01-Oct-2002; PackageReference: N-13(16); Publisher: Altium Limited; PackageDescription: LED, 7-Segment Display, 20.32 mm, RHD; 16 Leads (3 Absent); Row Space 15.24 mm; Pitch 2.54 mm; ComponentLink1Description: Manufacturer Link; ComponentLink1URL: http://www.avagotech.com/; ComponentLink2Description: Datasheet; ComponentLink2URL: http://cp.literature.agilent.com/litweb/pdf/5988-7999EN.pdf
footprint N-13(16) (LED, 7-Segment Display, 20.32 mm, RHD; 16 Leads (3 Absent); Row Space 15.24 mm; Pitch 2.54 mm)
simulation model HDSP_816G (SUBCKT)
pins: 1 a "Anode", 2 f "Anode", 3 K "Common Cathode", 4 e "Anode", 5 K "Common Cathode", 6 NC "No Connect", 9 DP "RHDP Anode", 10 d "Anode", 11 K "Common Cathode", 12 c "Anode", 13 g "Anode", 14 b "Anode", 16 K "Common Cathode"

## HDSP-3350
designator DS?
10.92 mm Low Current HER 7-Segment Display: CA, LH DP; Note: Pins 3 and 14 are redundant Anodes.; Note: No pins are present in positions 4, 5 and 12.; Published: 26-May-2004; LatestRevisionDate: 11-Oct-2004; LatestRevisionNote: Display outline superimposed on PCB Footprint.; DatasheetVersion: 11-Mar-2003; PackageVersion: 11-Mar-2003; PackageReference: E-11(L); Publisher: Altium Limited; PackageDescription: LED, 7-Segment Display, 10.92 mm, LHD; 14 Leads (3 Absent); Row Space 7.62 mm; Pitch 2.54 mm; ComponentLink1Description: Manufacturer Link; ComponentLink1URL: http://www.avagotech.com/; ComponentLink2Description: Datasheet; ComponentLink2URL: http://cp.literature.agilent.com/litweb/pdf/5989-2824EN.pdf
footprint E-11(L) (LED, 7-Segment Display, 10.92 mm, LHD; 14 Leads (3 Absent); Row Space 7.62 mm; Pitch 2.54 mm)
simulation model HDSP_3350 (SUBCKT)
pins: 1 a "Cathode", 2 f "Cathode", 3 A "Anode", 6 DP "Cathode", 7 e "Cathode", 8 d "Cathode", 9 NC "No Connect", 10 c "Cathode", 11 g "Cathode", 13 b "Cathode", 14 A "Anode"

## HDSP-3351
designator DS?
10.92 mm Low Current HER 7-Segment Display: CA, RH DP; Note: Pins 3 and 14 are redundant Anodes.; Note: No pins are present in positions 4, 5 and 12.; Published: 26-May-2004; LatestRevisionDate: 11-Oct-2004; LatestRevisionNote: Display outline superimposed on PCB Footprint.; DatasheetVersion: 11-Mar-2003; PackageVersion: 11-Mar-2003; PackageReference: E-11(R); Publisher: Altium Limited; PackageDescription: LED, 7-Segment Display, 10.92 mm, RHD; 14 Leads (3 Absent); Row Space 7.62 mm; Pitch 2.54 mm; ComponentLink1Description: Manufacturer Link; ComponentLink1URL: http://www.avagotech.com/; ComponentLink2Description: Datasheet; ComponentLink2URL: http://cp.literature.agilent.com/litweb/pdf/5989-2824EN.pdf
footprint E-11(R) (LED, 7-Segment Display, 10.92 mm, RHD; 14 Leads (3 Absent); Row Space 7.62 mm; Pitch 2.54 mm)
simulation model HDSP_3351 (SUBCKT)
pins: 1 a "Cathode", 2 f "Cathode", 3 A "Anode", 6 NC "No Connect", 7 e "Cathode", 8 d "Cathode", 9 DP "Cathode", 10 c "Cathode", 11 g "Cathode", 13 b "Cathode", 14 A "Anode"

## HDSP-3353
designator DS?
10.92 mm Low Current HER 7-Segment Display: CC, RH DP; Note: Pins 3 and 14 are redundant Cathodes.; Note: No pins are present in positions 4, 5 and 12.; Published: 26-May-2004; LatestRevisionDate: 11-Oct-2004; LatestRevisionNote: Display outline superimposed on PCB Footprint.; DatasheetVersion: 11-Mar-2003; PackageVersion: 11-Mar-2003; PackageReference: E-11(R); Publisher: Altium Limited; PackageDescription: LED, 7-Segment Display, 10.92 mm, RHD; 14 Leads (3 Absent); Row Space 7.62 mm; Pitch 2.54 mm; ComponentLink1Description: Manufacturer Link; ComponentLink1URL: http://www.avagotech.com/; ComponentLink2Description: Datasheet; ComponentLink2URL: http://cp.literature.agilent.com/litweb/pdf/5989-2824EN.pdf
footprint E-11(R) (LED, 7-Segment Display, 10.92 mm, RHD; 14 Leads (3 Absent); Row Space 7.62 mm; Pitch 2.54 mm)
simulation model HDSP_3353 (SUBCKT)
pins: 1 a "Anode", 2 f "Anode", 3 K "Cathode", 6 NC "No Connect", 7 e "Anode", 8 d "Anode", 9 DP "Anode", 10 c "Anode", 11 g "Anode", 13 b "Anode", 14 K "Cathode"

## HDSP-3600
designator DS?
7.62 mm Green 7-Segment Display: CA, LH DP; Note: Pins 3 and 14 are redundant Anodes.; Note: No pins are present in positions 4, 5 and 12.; Published: 26-May-2004; LatestRevisionDate: 11-Oct-2004; LatestRevisionNote: Display outline superimposed on PCB Footprint.; DatasheetVersion: 27-Aug-2001; PackageVersion: 10-Mar-2001; PackageReference: A-11(L); Publisher: Altium Limited; PackageDescription: LED, 7-Segment Display, 7.62 mm, LHD; 14 Leads (3 Absent); Row Space 7.62 mm; Pitch 2.54 mm; ComponentLink1Description: Manufacturer Link; ComponentLink1URL: http://www.avagotech.com/; ComponentLink2Description: Datasheet; ComponentLink2URL: http://cp.literature.agilent.com/litweb/pdf/5988-3325EN.pdf
footprint A-11(L) (LED, 7-Segment Display, 7.62 mm, LHD; 14 Leads (3 Absent); Row Space 7.62 mm; Pitch 2.54 mm)
simulation model HDSP_3600 (SUBCKT)
pins: 1 a "Cathode", 2 f "Cathode", 3 A "Anode", 6 DP "Cathode", 7 e "Cathode", 8 d "Cathode", 9 NC "No Connect", 10 c "Cathode", 11 g "Cathode", 13 b "Cathode", 14 A "Anode"

## HDSP-3601
designator DS?
7.62 mm Green 7-Segment Display: CA, RH DP; Note: Pins 3 and 14 are redundant Anodes.; Note: No pins are present in positions 4, 5 and 12.; Published: 26-May-2004; LatestRevisionDate: 11-Oct-2004; LatestRevisionNote: Display outline superimposed on PCB Footprint.; DatasheetVersion: 27-Aug-2001; PackageVersion: 10-Mar-2001; PackageReference: A-11(R); Publisher: Altium Limited; PackageDescription: LED, 7-Segment Display, 7.62 mm, RHD; 14 Leads (3 Absent); Row Space 7.62 mm; Pitch 2.54 mm; ComponentLink1Description: Manufacturer Link; ComponentLink1URL: http://www.avagotech.com/; ComponentLink2Description: Datasheet; ComponentLink2URL: http://cp.literature.agilent.com/litweb/pdf/5988-3325EN.pdf
footprint A-11(R) (LED, 7-Segment Display, 7.62 mm, RHD; 14 Leads (3 Absent); Row Space 7.62 mm; Pitch 2.54 mm)
simulation model HDSP_3601 (SUBCKT)
pins: 1 a "Cathode", 2 f "Cathode", 3 A "Anode", 6 NC "No Connect", 7 e "Cathode", 8 d "Cathode", 9 DP "Cathode", 10 c "Cathode", 11 g "Cathode", 13 b "Cathode", 14 A "Anode"

## HDSP-3603
designator DS?
7.62 mm Green 7-Segment Display: CC, RH DP; Note: Pins 2 and 9 are redundant Cathodes.; Note: No pins are present in positions 1, 7, 8 and 14.; Published: 26-May-2004; LatestRevisionDate: 11-Oct-2004; LatestRevisionNote: Display outline superimposed on PCB Footprint.; DatasheetVersion: 27-Aug-2001; PackageVersion: 27-Aug-2001; PackageReference: A-10(14); Publisher: Altium Limited; PackageDescription: LED, 7-Segment Display, 7.62 mm, RHD; 14 Leads (4 Absent); Row Space 7.62 mm; Pitch 2.54 mm; ComponentLink1Description: Manufacturer Link; ComponentLink1URL: http://www.avagotech.com/; ComponentLink2Description: Datasheet; ComponentLink2URL: http://cp.literature.agilent.com/litweb/pdf/5988-3325EN.pdf
footprint A-10(14) (LED, 7-Segment Display, 7.62 mm, RHD; 14 Leads (4 Absent); Row Space 7.62 mm; Pitch 2.54 mm)
simulation model HDSP_3603 (SUBCKT)
pins: 2 K "Cathode", 3 f "Anode", 4 g "Anode", 5 e "Anode", 6 d "Anode", 9 K "Cathode", 10 DP "Anode", 11 c "Anode", 12 b "Anode", 13 a "Anode"

## HDSP-3900
designator DS?
20.32 mm Gray Package HER 7-Segment Display: CA, LH DP; Note: Pins 4, 6, 12 and 17 are redundant Anodes.; Note: No pins are present in positions 1, 8, 9, 10, 16 and 18.; Published: 26-May-2004; LatestRevisionDate: 11-Oct-2004; LatestRevisionNote: Display outline superimposed on PCB Footprint.; DatasheetVersion: 26-Jul-2001; PackageVersion: 26-Jul-2001; PackageReference: N-12; Publisher: Altium Limited; PackageDescription: LED, 7-Segment Display, 20.32 mm, LHD; 18 Leads (6 Absent); Row Space 15.24 mm; Pitch 2.54 mm; ComponentLink1Description: Manufacturer Link; ComponentLink1URL: http://www.avagotech.com/; ComponentLink2Description: Datasheet; ComponentLink2URL: http://cp.literature.agilent.com/litweb/pdf/5988-1737EN.pdf
footprint N-12 (LED, 7-Segment Display, 20.32 mm, LHD; 18 Leads (6 Absent); Row Space 15.24 mm; Pitch 2.54 mm)
simulation model HDSP_3900 (SUBCKT)
pins: 2 a "Cathode", 3 f "Cathode", 4 A "Anode", 5 e "Cathode", 6 A "Anode", 7 DP "Cathode", 11 d "Cathode", 12 A "Anode", 13 c "Cathode", 14 g "Cathode", 15 b "Cathode", 17 A "Anode"

## HDSP-3901
designator DS?
20.32 mm Gray Package HER 7-Segment Display: CA, RH DP; Note: Pins 4, 6, 12 and 17 are redundant Anodes.; Note: No pins are present in positions 1, 8, 9, 16 and 18.; Published: 26-May-2004; LatestRevisionDate: 11-Oct-2004; LatestRevisionNote: Display outline superimposed on PCB Footprint.; DatasheetVersion: 26-Jul-2001; PackageVersion: 26-Jul-2001; PackageReference: N-13; Publisher: Altium Limited; PackageDescription: LED, 7-Segment Display, 20.32 mm, RHD; 18 Leads (5 Absent); Row Space 15.24 mm; Pitch 2.54 mm; ComponentLink1Description: Manufacturer Link; ComponentLink1URL: http://www.avagotech.com/; ComponentLink2Description: Datasheet; ComponentLink2URL: http://cp.literature.agilent.com/litweb/pdf/5988-1737EN.pdf
footprint N-13 (LED, 7-Segment Display, 20.32 mm, RHD; 18 Leads (5 Absent); Row Space 15.24 mm; Pitch 2.54 mm)
simulation model HDSP_3901 (SUBCKT)
pins: 2 a "Cathode", 3 f "Cathode", 4 A "Anode", 5 e "Cathode", 6 A "Anode", 7 NC "No Connect", 10 DP "Cathode", 11 d "Cathode", 12 A "Anode", 13 c "Cathode", 14 g "Cathode", 15 b "Cathode", 17 A "Anode"

## HDSP-3903
designator DS?
20.32 mm Gray Package HER 7-Segment Display: CC, RH DP; Note: Pins 4, 6, 12 and 17 are redundant Cathodes.; Note: No pins are present in positions 1, 8, 9, 16 and 18.; Published: 26-May-2004; LatestRevisionDate: 11-Oct-2004; LatestRevisionNote: Display outline superimposed on PCB Footprint.; DatasheetVersion: 26-Jul-2001; PackageVersion: 26-Jul-2001; PackageReference: N-13; Publisher: Altium Limited; PackageDescription: LED, 7-Segment Display, 20.32 mm, RHD; 18 Leads (5 Absent); Row Space 15.24 mm; Pitch 2.54 mm; ComponentLink1Description: Manufacturer Link; ComponentLink1URL: http://www.avagotech.com/; ComponentLink2Description: Datasheet; ComponentLink2URL: http://cp.literature.agilent.com/litweb/pdf/5988-1737EN.pdf
footprint N-13 (LED, 7-Segment Display, 20.32 mm, RHD; 18 Leads (5 Absent); Row Space 15.24 mm; Pitch 2.54 mm)
simulation model HDSP_3903 (SUBCKT)
pins: 2 a "Anode", 3 f "Anode", 4 K "Cathode", 5 e "Anode", 6 K "Cathode", 7 NC "No Connect", 10 DP "Anode", 11 d "Anode", 12 K "Cathode", 13 c "Anode", 14 g "Anode", 15 b "Anode", 17 K "Cathode"

## HDSP-3905
designator DS?
20.32 mm Gray Package HER 7-Segment Display: CC, LH DP; Note: Pins 4, 6, 12 and 17 are redundant Cathodes.; Note: No pins are present in positions 1, 8, 9, 10, 16 and 18.; Published: 26-May-2004; LatestRevisionDate: 11-Oct-2004; LatestRevisionNote: Display outline superimposed on PCB Footprint.; DatasheetVersion: 26-Jul-2001; PackageVersion: 26-Jul-2001; PackageReference: N-12; Publisher: Altium Limited; PackageDescription: LED, 7-Segment Display, 20.32 mm, LHD; 18 Leads (6 Absent); Row Space 15.24 mm; Pitch 2.54 mm; ComponentLink1Description: Manufacturer Link; ComponentLink1URL: http://www.avagotech.com/; ComponentLink2Description: Datasheet; ComponentLink2URL: http://cp.literature.agilent.com/litweb/pdf/5988-1737EN.pdf
footprint N-12 (LED, 7-Segment Display, 20.32 mm, LHD; 18 Leads (6 Absent); Row Space 15.24 mm; Pitch 2.54 mm)
simulation model HDSP_3905 (SUBCKT)
pins: 2 a "Anode", 3 f "Anode", 4 K "Cathode", 5 e "Anode", 6 K "Cathode", 7 DP "Anode", 11 d "Anode", 12 K "Cathode", 13 c "Anode", 14 g "Anode", 15 b "Anode", 17 K "Cathode"

## HDSP-4030
designator DS?
7.62 mm Gray Package Yellow 7-Segment Display for High Light Ambient Conditions: CA, LH DP; Note: Pins 3 and 14 are redundant Anodes.; Note: No pins are present in positions 4, 5 and 12.; Published: 26-May-2004; LatestRevisionDate: 11-Oct-2004; LatestRevisionNote: Display outline superimposed on PCB Footprint.; DatasheetVersion: 10-Mar-2001; PackageVersion: 10-Mar-2001; PackageReference: A-11(L); Publisher: Altium Limited; PackageDescription: LED, 7-Segment Display, 7.62 mm, LHD; 14 Leads (3 Absent); Row Space 7.62 mm; Pitch 2.54 mm; ComponentLink1Description: Manufacturer Link; ComponentLink1URL: http://www.avagotech.com/; ComponentLink2Description: Datasheet; ComponentLink2URL: http://cp.literature.agilent.com/litweb/pdf/5988-1734EN.pdf
footprint A-11(L) (LED, 7-Segment Display, 7.62 mm, LHD; 14 Leads (3 Absent); Row Space 7.62 mm; Pitch 2.54 mm)
simulation model HDSP_4030 (SUBCKT)
pins: 1 a "Cathode", 2 f "Cathode", 3 A "Anode", 6 DP "Cathode", 7 e "Cathode", 8 d "Cathode", 9 NC "No Connect", 10 c "Cathode", 11 g "Cathode", 13 b "Cathode", 14 A "Anode"

## HDSP-4031
designator DS?
7.62 mm Gray Package Yellow 7-Segment Display for High Light Ambient Conditions: CA, RH DP; Note: Pins 3 and 14 are redundant Anodes.; Note: No pins are present in positions 4, 5 and 12.; Published: 26-May-2004; LatestRevisionDate: 11-Oct-2004; LatestRevisionNote: Display outline superimposed on PCB Footprint.; DatasheetVersion: 10-Mar-2001; PackageVersion: 10-Mar-2001; PackageReference: A-11(R); Publisher: Altium Limited; PackageDescription: LED, 7-Segment Display, 7.62 mm, RHD; 14 Leads (3 Absent); Row Space 7.62 mm; Pitch 2.54 mm; ComponentLink1Description: Manufacturer Link; ComponentLink1URL: http://www.avagotech.com/; ComponentLink2Description: Datasheet; ComponentLink2URL: http://cp.literature.agilent.com/litweb/pdf/5988-1734EN.pdf
footprint A-11(R) (LED, 7-Segment Display, 7.62 mm, RHD; 14 Leads (3 Absent); Row Space 7.62 mm; Pitch 2.54 mm)
simulation model HDSP_4031 (SUBCKT)
pins: 1 a "Cathode", 2 f "Cathode", 3 A "Anode", 6 NC "No Connect", 7 e "Cathode", 8 d "Cathode", 9 DP "Cathode", 10 c "Cathode", 11 g "Cathode", 13 b "Cathode", 14 A "Anode"

## HDSP-4033
designator DS?
7.62 mm Gray Package Yellow 7-Segment Display for High Light Ambient Conditions: CC, RH DP; Note: Pins 1 and 6 are redundant Cathodes.; Published: 26-May-2004; LatestRevisionDate: 11-Oct-2004; LatestRevisionNote: Display outline superimposed on PCB Footprint.; DatasheetVersion: 10-Mar-2001; PackageVersion: 10-Mar-2001; PackageReference: A-10; Publisher: Altium Limited; PackageDescription: LED, 7-Segment Display, 7.62 mm, RHD; 10 Leads; Row Space 7.62 mm; Pitch 2.54 mm; ComponentLink1Description: Manufacturer Link; ComponentLink1URL: http://www.avagotech.com/; ComponentLink2Description: Datasheet; ComponentLink2URL: http://cp.literature.agilent.com/litweb/pdf/5988-1734EN.pdf
footprint A-10 (LED, 7-Segment Display, 7.62 mm, RHD; 10 Leads; Row Space 7.62 mm; Pitch 2.54 mm)
simulation model HDSP_4033 (SUBCKT)
pins: 1 K "Cathode", 2 f "Anode", 3 g "Anode", 4 e "Anode", 5 d "Anode", 6 K "Cathode", 7 DP "Anode", 8 c "Anode", 9 b "Anode", 10 a "Anode"

## HDSP-4130
designator DS?
10.92 mm Gray Package Yellow 7-Segment Display for High Light Ambient Conditions: CA, LH DP; Note: Pins 3 and 14 are redundant Anodes.; Note: No pins are present in positions 4, 5 and 12.; Published: 26-May-2004; LatestRevisionDate: 11-Oct-2004; LatestRevisionNote: Display outline superimposed on PCB Footprint.; DatasheetVersion: 10-Mar-2001; PackageVersion: 11-Mar-2003; PackageReference: E-11(L); Publisher: Altium Limited; PackageDescription: LED, 7-Segment Display, 10.92 mm, LHD; 14 Leads (3 Absent); Row Space 7.62 mm; Pitch 2.54 mm; ComponentLink1Description: Manufacturer Link; ComponentLink1URL: http://www.avagotech.com/; ComponentLink2Description: Datasheet; ComponentLink2URL: http://cp.literature.agilent.com/litweb/pdf/5988-1734EN.pdf
footprint E-11(L) (LED, 7-Segment Display, 10.92 mm, LHD; 14 Leads (3 Absent); Row Space 7.62 mm; Pitch 2.54 mm)
simulation model HDSP_4030 (SUBCKT)
pins: 1 a "Cathode", 2 f "Cathode", 3 A "Anode", 6 DP "Cathode", 7 e "Cathode", 8 d "Cathode", 9 NC "No Connect", 10 c "Cathode", 11 g "Cathode", 13 b "Cathode", 14 A "Anode"

## HDSP-4131
designator DS?
10.92 mm Gray Package Yellow 7-Segment Display for High Light Ambient Conditions: CA, RH DP; Note: Pins 3 and 14 are redundant Anodes.; Note: No pins are present in positions 4, 5 and 12.; Published: 26-May-2004; LatestRevisionDate: 11-Oct-2004; LatestRevisionNote: Display outline superimposed on PCB Footprint.; DatasheetVersion: 10-Mar-2001; PackageVersion: 11-Mar-2003; PackageReference: E-11(R); Publisher: Altium Limited; PackageDescription: LED, 7-Segment Display, 10.92 mm, RHD; 14 Leads (3 Absent); Row Space 7.62 mm; Pitch 2.54 mm; ComponentLink1Description: Manufacturer Link; ComponentLink1URL: http://www.avagotech.com/; ComponentLink2Description: Datasheet; ComponentLink2URL: http://cp.literature.agilent.com/litweb/pdf/5988-1734EN.pdf
footprint E-11(R) (LED, 7-Segment Display, 10.92 mm, RHD; 14 Leads (3 Absent); Row Space 7.62 mm; Pitch 2.54 mm)
simulation model HDSP_4031 (SUBCKT)
pins: 1 a "Cathode", 2 f "Cathode", 3 A "Anode", 6 NC "No Connect", 7 e "Cathode", 8 d "Cathode", 9 DP "Cathode", 10 c "Cathode", 11 g "Cathode", 13 b "Cathode", 14 A "Anode"